# Altium footprint library TI Analog Comparator.PcbLib: 17 footprints (part 2 of 2)
Each footprint in its own frame and in the unit in brackets; x right, y up, seen from the top. Pads: shape width x height; smd on the part's side, far side on the other; paste and mask are expansions set on the pad; w line width, h text height; cw(c..) or ccw(c..) is an arc to the next point about the centre after c.
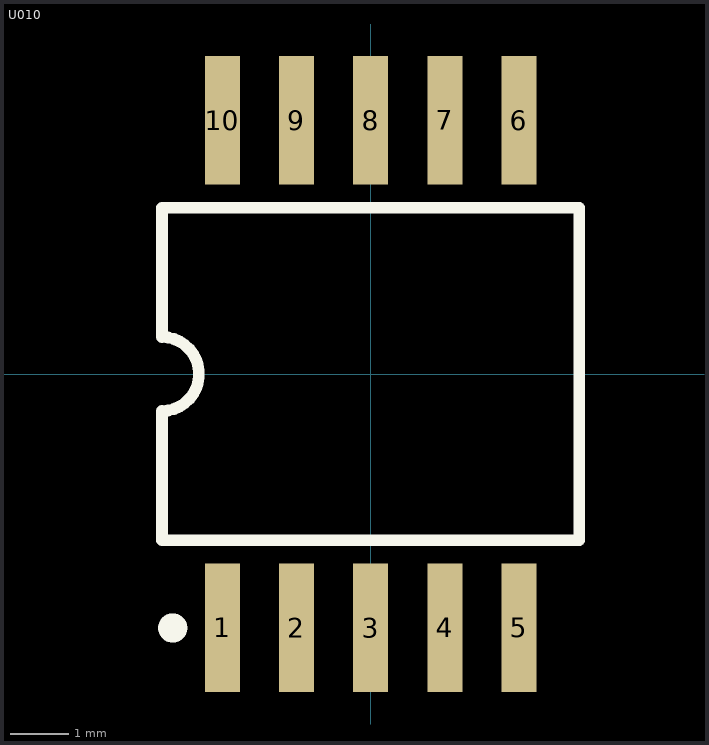
[diagram p1: the footprint, top view; thin cyan lines are the x and y axes]

## U010 [mm] "DFP; 10 Leads; Body 7.1 x 6.4 mm (LxW max); Pitch 1.27 mm"
height 2.03
pads (10):
  rect 0.6x2.2 smd: 1(-2.54,-4.35) 2(-1.27,-4.35) 3(0,-4.35) 4(1.27,-4.35) 5(2.54,-4.35) 6(2.54,4.35) 7(1.27,4.35) 8(0,4.35) 9(-1.27,4.35) 10(-2.54,4.35)
Top Overlay:
  circle w0.25: c-3.39,-4.35 r0.125
  lines w0.2: -3.575,-2.85 -3.575,-0.635 ccw(c-3.575,0) -3.575,0.635 -3.575,2.85 3.575,2.85 3.575,-2.85 -3.575,-2.85